# EAGLE library part MIC5219BMM (library micrel)
VOLTAGE REGULATOR
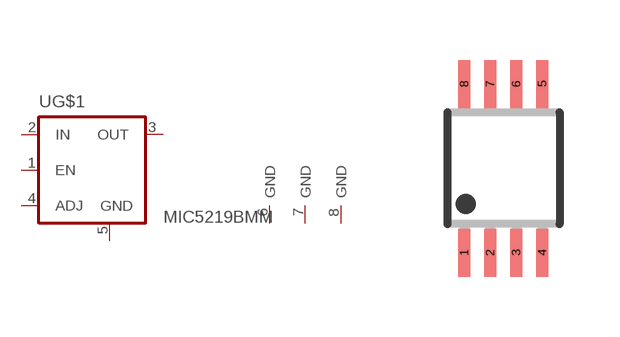
[diagram p15: symbol with the pads of MSOP08; footprint MSOP08]

Designator prefix U; gates G1=GND-1 G2=GND-1 G3=GND-1 G$1=MIC5219A

## MIC5219BMM  [MSOP08]
1  G$1:EN  in
2  G$1:IN  in
3  G$1:OUT  pas
4  G$1:ADJ  pas
5  G$1:GND  pwr
6  G1:GND  pwr
7  G2:GND  pwr
8  G3:GND  pwr

## Footprint MSOP08 (pad centres in mm)
Mini Small Outline Package
smd 0.3 x 1.2: 1 -0.976,-2.113; 2 -0.326,-2.113; 3 0.324,-2.113; 4 0.974,-2.113; 5 0.974,2.112; 6 0.324,2.112; 7 -0.326,2.112; 8 -0.976,2.112